# EAGLE library part MCP1640* (library matriLedWatch)
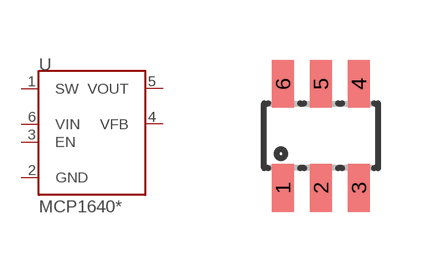
[diagram p6: symbol with the pads of SOT23-6L; footprint SOT23-6L]

Designator prefix U

## MCP1640-I/MC  [SOT23-6L]
1  SW
2  GND
3  EN
4  VFB
5  VOUT
6  VIN

## Footprint SOT23-6L (pad centres in mm)
Small Outline Transistor
smd 0.55 x 1.2: 1 -0.95,-1.3; 2 0,-1.3; 3 0.95,-1.3; 4 0.95,1.3; 5 0,1.3; 6 -0.95,1.3